# EAGLE library part 5749070-5 (library D-Sub Connectors)
CONN D-TYPE RCPT 50POS VERT SLDR Manufacturer's datasheet <https://www.te.com/commerce/DocumentDelivery/DDEController?Action=srchrtrv&DocNm=5749070&DocType=Customer+Drawing&DocLang=English>
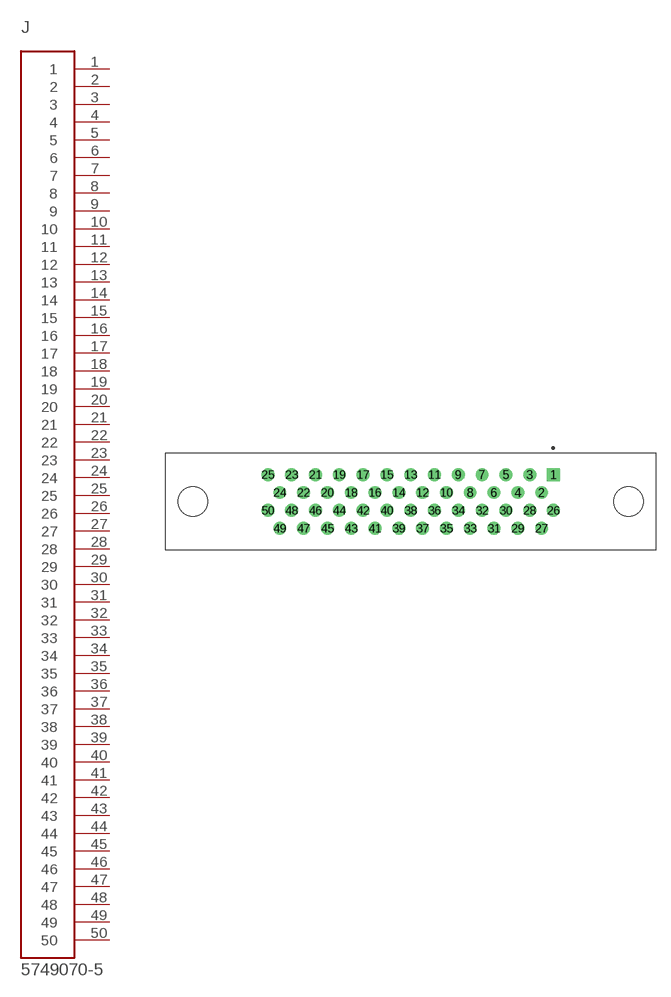
[diagram p21: symbol with the pads of 5749070-5; footprint 5749070-5]

Designator prefix J

## 5749070-5 (CREATED_BY: PCBLayout.com; DIGIKEY_PART_NUMBER: A31821-ND; MANUFACTURER: TE Connectivity AMP Connectors; MPN: 5749070-5)  [5749070-5]
1  1  pas
2  2  pas
3  3  pas
4  4  pas
5  5  pas
6  6  pas
7  7  pas
8  8  pas
9  9  pas
10  10  pas
11  11  pas
12  12  pas
13  13  pas
14  14  pas
15  15  pas
16  16  pas
17  17  pas
18  18  pas
19  19  pas
20  20  pas
21  21  pas
22  22  pas
23  23  pas
24  24  pas
25  25  pas
26  26  pas
27  27  pas
28  28  pas
29  29  pas
30  30  pas
31  31  pas
32  32  pas
33  33  pas
34  34  pas
35  35  pas
36  36  pas
37  37  pas
38  38  pas
39  39  pas
40  40  pas
41  41  pas
42  42  pas
43  43  pas
44  44  pas
45  45  pas
46  46  pas
47  47  pas
48  48  pas
49  49  pas
50  50  pas

## Footprint 5749070-5 (pad centres in mm)
drill 0.865 square: 1 15.24,2.865
drill 0.865: 2 13.97,0.955; 3 12.7,2.865; 4 11.43,0.955; 5 10.16,2.865; 6 8.89,0.955; 7 7.62,2.865; 8 6.35,0.955; 9 5.08,2.865; 10 3.81,0.955; 11 2.54,2.865; 12 1.27,0.955; 13 0,2.865; 14 -1.27,0.955; 15 -2.54,2.865; 16 -3.81,0.955; 17 -5.08,2.865; 18 -6.35,0.955; 19 -7.62,2.865; 20 -8.89,0.955; 21 -10.16,2.865; 22 -11.43,0.955; 23 -12.7,2.865; 24 -13.97,0.955; 25 -15.24,2.865; 26 15.24,-0.955; 27 13.97,-2.865; 28 12.7,-0.955; 29 11.43,-2.865; 30 10.16,-0.955; 31 8.89,-2.865; 32 7.62,-0.955; 33 6.35,-2.865; 34 5.08,-0.955; 35 3.81,-2.865; 36 2.54,-0.955; 37 1.27,-2.865; 38 0,-0.955; 39 -1.27,-2.865; 40 -2.54,-0.955; 41 -3.81,-2.865; 42 -5.08,-0.955; 43 -6.35,-2.865; 44 -7.62,-0.955; 45 -8.89,-2.865; 46 -10.16,-0.955; 47 -11.43,-2.865; 48 -12.7,-0.955; 49 -13.97,-2.865; 50 -15.24,-0.955
hole 3.18 at -23.24,0
hole 3.18 at 23.24,0